# EAGLE library part DM3D-SF (library DM3D-SF)
Micro SD card push pull manual Source: Datasheet <https://datasheet.datasheetarchive.com/originals/distributors/SFDatasheet-7/sf-000141252.pdf>
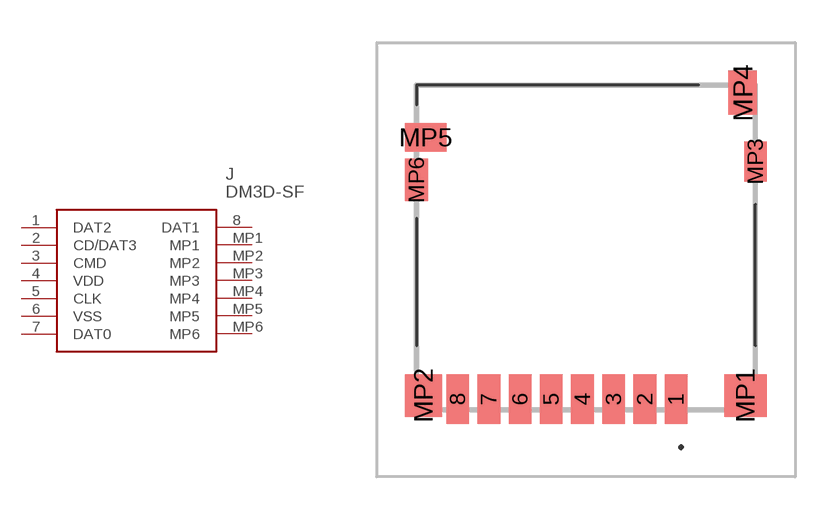
[diagram p0: symbol with the pads of DM3DSF; footprint DM3DSF]

Designator prefix J

## DM3D-SF (Description: Micro SD card push pull manual; Height: 1.55mm; Manufacturer_Name: Hirose; Manufacturer_Part_Number: DM3D-SF; Mouser_Part_Number: 798-DM3D-SF; Mouser_Price-Stock: https://www.mouser.co.uk/ProductDetail/Hirose-Connector/DM3D-SF?qs=nSryOFbzj8L3f0GFYlvXkw%3D%3D)  [DM3DSF]
1  DAT2
2  CD/DAT3
3  CMD
4  VDD
5  CLK
6  VSS
7  DAT0
8  DAT1
MP1  MP1
MP2  MP2
MP3  MP3
MP4  MP4
MP5  MP5
MP6  MP6

## Footprint DM3DSF (pad centres in mm)
DM3D-SF-4
smd 0.8 x 1.75: 1 3.175,-5.35; 2 2.075,-5.35; 3 0.975,-5.35; 4 -0.125,-5.35; 5 -1.225,-5.35; 6 -2.325,-5.35; 7 -3.425,-5.35; 8 -4.525,-5.35
smd 1.5 x 1.5: MP1 5.625,-5.225
smd 1.3 x 1.5: MP2 -5.725,-5.225
smd 0.8 x 1.4: MP3 5.975,3.025
smd 1 x 1.55: MP4 5.525,5.45
smd 1.45 x 1: MP5 -5.65,3.875
smd 0.8 x 1.5: MP6 -5.975,2.375